# Altium footprint library CAPC3216X170N.PcbLib: 1 footprints
Each footprint in its own frame and in the unit in brackets; x right, y up, seen from the top. Pads: shape width x height; smd on the part's side, far side on the other; paste and mask are expansions set on the pad; w line width, h text height; cw(c..) or ccw(c..) is an arc to the next point about the centre after c.
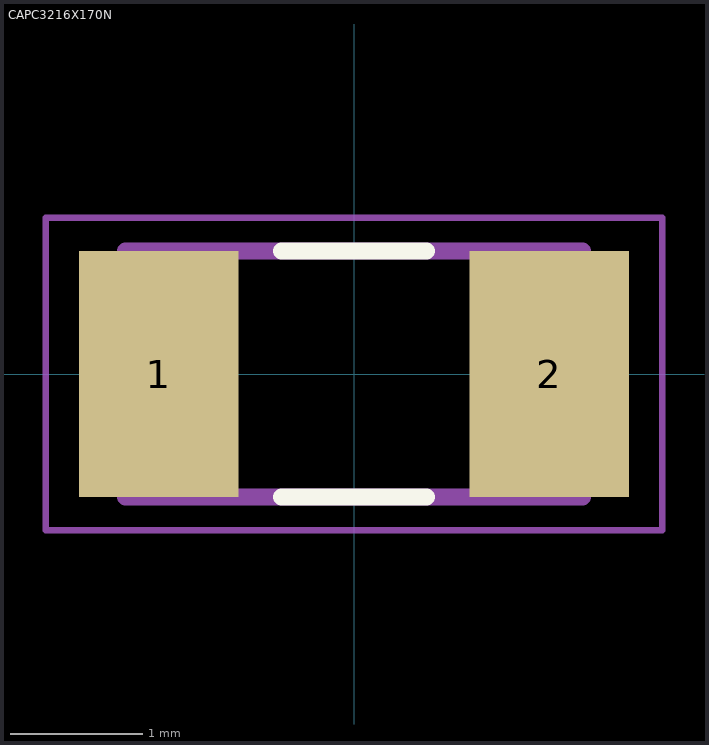
[diagram p0: the footprint, top view; thin cyan lines are the x and y axes]

## CAPC3216X170N [mm]
pads (2):
  rect 1.21x1.86 smd paste+0 mask+0.102: 1(-1.477,0) 2(1.477,0)
Top Overlay:
  lines w0.127: -0.55,-0.93 0.55,-0.93 ; -0.55,0.93 0.55,0.93
Assembly Top:
  lines w0.127: -1.73,-0.93 1.73,-0.93 1.73,0.93 -1.73,0.93 -1.73,-0.93
Courtyard Top:
  lines w0.05: -2.331,-1.181 2.331,-1.181 2.331,1.181 -2.331,1.181 -2.331,-1.181
3D body "step_temp.STEP": height 1.7, standoff 0, extent -1.6,-0.8 1.6,0.8